# Altium footprint library FOOTPRINTS.PcbLib: 19 footprints (part 1 of 2)
Each footprint in its own frame and in the unit in brackets; x right, y up, seen from the top. Pads: shape width x height; smd on the part's side, far side on the other; paste and mask are expansions set on the pad; w line width, h text height; cw(c..) or ccw(c..) is an arc to the next point about the centre after c.
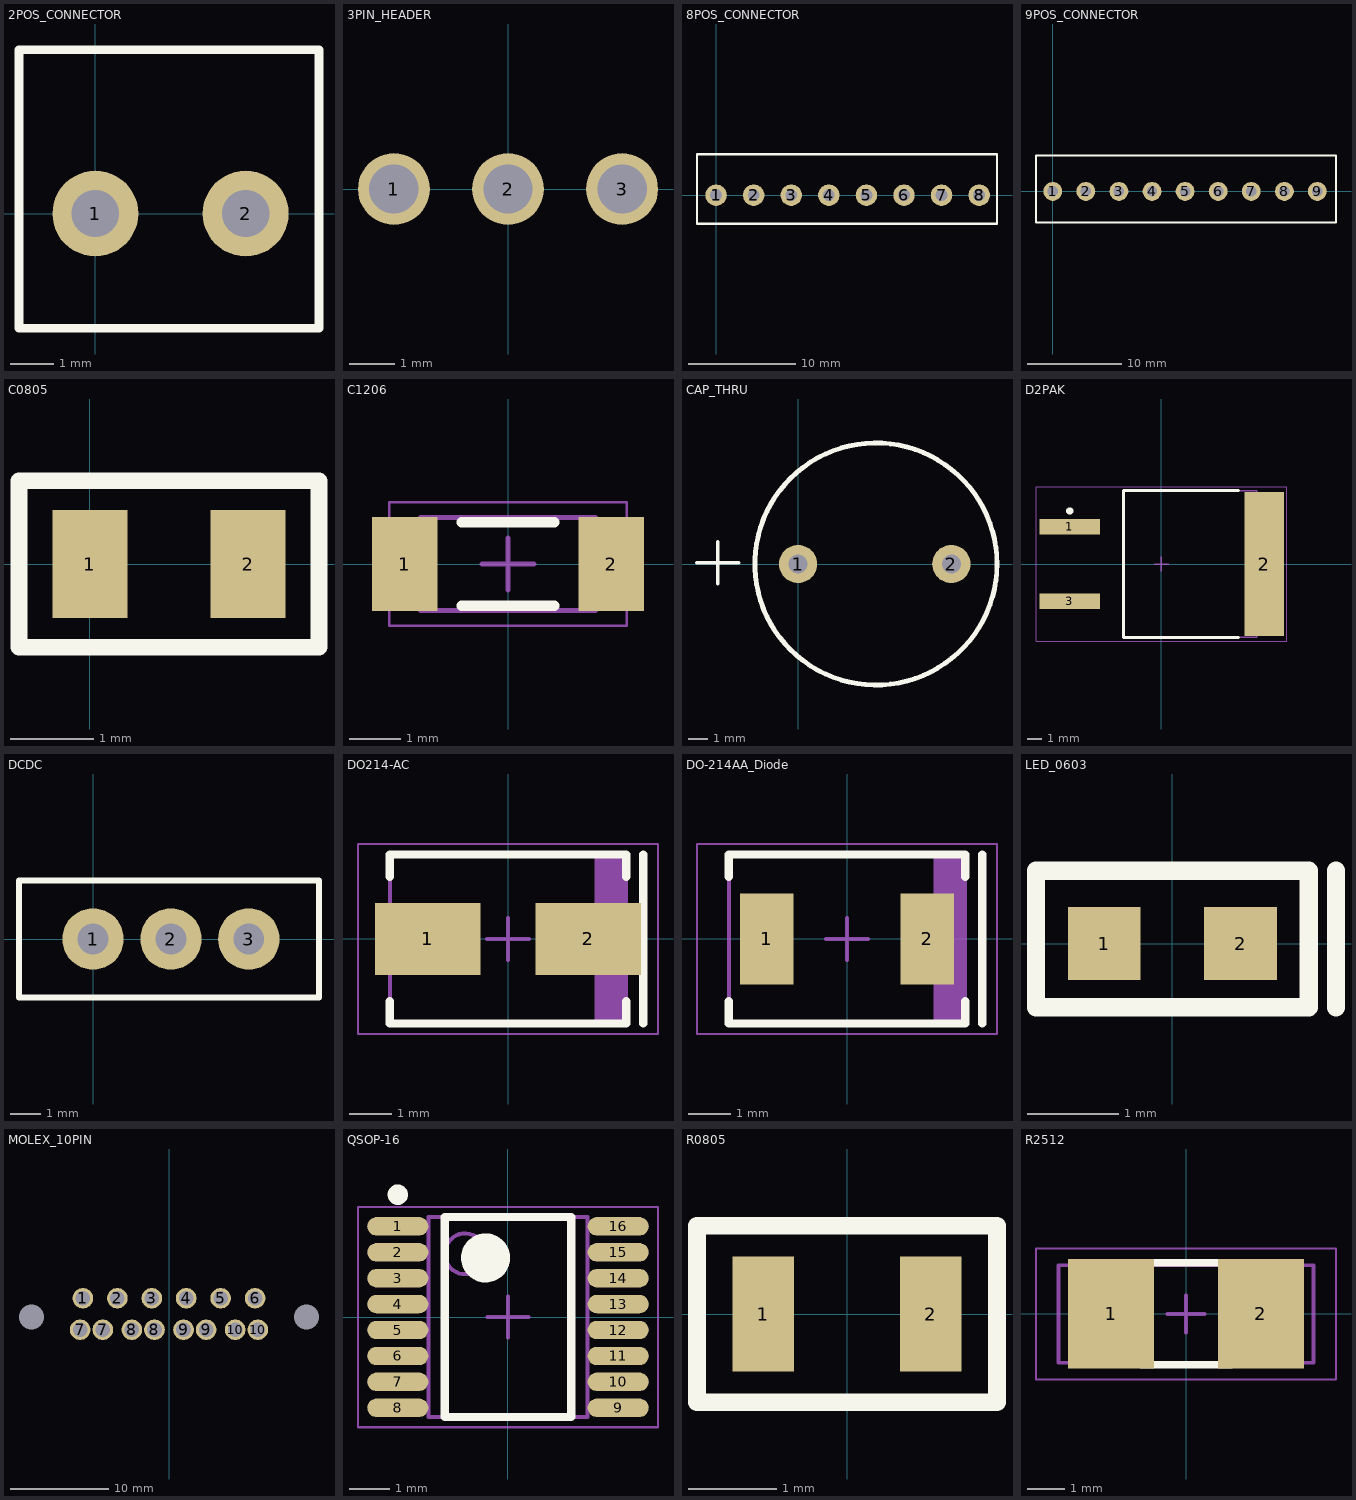
[diagram p0: the footprints below, top view; thin cyan lines are the x and y axes]

## 2POS_CONNECTOR [mm]
pads (2):
  round 2 hole 1.1: 1(0,0) 2(3.5,0)
Top Overlay:
  lines w0.2: -1.778,-2.667 -1.778,3.81 5.207,3.81 5.207,-2.667 -1.778,-2.667

## 3PIN_HEADER [mm]
pads (3):
  round 1.6 hole 1.1: 1(-2.54,0) 2(0,0) 3(2.54,0)
3D body "Pin Header 1x3 TH Pitch 2.54mm.stp": height 9.5, standoff -3.2, extent -3.81,-1.27 3.81,1.27

## 8POS_CONNECTOR [mm]
pads (9):
  round 2 hole 1.1: 1(0,0) 2(3.5,0) 3(7,0) 4(10.5,0) 5(14,0) 6(17.5,0) 7(21,0) 8(24.5,0) 8(24.511,0)
Top Overlay:
  lines w0.2: -1.778,-2.667 -1.778,3.81 26.162,3.81 26.162,-2.667 -1.778,-2.667

## 9POS_CONNECTOR [mm]
pads (9):
  round 2 hole 1.1: 1(0,0) 2(3.5,0) 3(7,0) 4(10.5,0) 5(14,0) 6(17.5,0) 7(21,0) 8(24.511,0) 9(28,0)
Top Overlay:
  lines w0.2: -1.778,-3.302 -1.778,3.81 29.972,3.81 29.972,-3.302 -1.778,-3.302

## C0805 [mm]
pads (2):
  rect 0.9x1.3 smd: 1(0,0) 2(1.9,0)
Top Overlay:
  lines w0.2: -0.85,-1 -0.85,1 2.75,1 2.75,-1 -0.85,-1

## C1206 [mm] "Chip Capacitor, 2-Leads, Body 3.20x1.60mm, IPC Medium Density"
height 1.8
pads (2):
  rect 1.27x1.82 smd: 1(-2,0) 2(2,0)
Top Overlay:
  lines w0.2: -0.9,-0.81 0.9,-0.81 ; -0.9,0.81 0.9,0.81
Mechanical 13:
  lines w0.1: -1.7,-0.9 1.7,-0.9 1.7,0.9 -1.7,0.9 -1.7,-0.9
Mechanical 15:
  lines w0.05: -2.3,-1.2 2.3,-1.2 2.3,1.2 -2.3,1.2 -2.3,-1.2
  lines w0.1: -0.5,0 0.5,0 ; 0,-0.5 0,0.5
3D body "CAPC3216X18N.step": height 1.8, standoff 0, extent -1.7,-0.9 1.7,0.9

## CAP_THRU [mm]
pads (2):
  round 2 hole 1: 1(0,0) 2(8,0)
Top Overlay:
  circle w0.254: c4.064,0 r6.316
  lines w0.2: -5.271,0.064 -3.111,0.064 ; -4.191,-1.016 -4.191,1.143

## D2PAK [mm]
pads (3):
  rect 4.15x1.05 smd: 1(-6.25,2.54) 3(-6.25,-2.54)
  rect 2.7x9.8 smd: 2(7,0)
Top Overlay:
  circle w0.25: c-6.25,3.615 r0.125
  lines w0.2: 5.25,-5 -2.6,-5 -2.6,5 5.25,5
Mechanical 13:
  lines w0.1: -2.6,-5 6.5,-5 6.5,5 -2.6,5 -2.6,-5
Mechanical 15:
  lines w0.05: -8.55,-5.25 8.55,-5.25 8.55,5.25 -8.55,5.25 -8.55,-5.25
  lines w0.1: -0.5,0 0.5,0 ; 0,-0.5 0,0.5
3D body "DPAK254P1524X483-3N.step": height 4.83, standoff 0, extent -7.105,-5 8.135,5

## DCDC [mm]
pads (3):
  round 2 hole 1: 1(0,0) 2(2.54,0) 3(5.08,0)
Top Overlay:
  lines w0.2: -2.413,-1.905 -2.413,1.905 7.366,1.905 7.366,-1.905 -2.413,-1.905

## DO214-AC [mm]
pads (2):
  rect 2.5x1.7 smd: 1(-1.9,0) 2(1.9,0)
Top Overlay:
  lines w0.2: -2.8,-1.475 -2.8,-2 2.8,-2 2.8,-1.475 ; -2.8,1.475 -2.8,2 2.8,2 2.8,1.475 ; 3.2,-2 3.2,2
Mechanical 13:
  rectangle: 2.043,-1.97 2.795,1.97
  lines w0.1: -2.795,-1.97 2.795,-1.97 2.795,1.97 -2.795,1.97 -2.795,-1.97
Mechanical 15:
  lines w0.05: -3.55,-2.25 3.55,-2.25 3.55,2.25 -3.55,2.25 -3.55,-2.25
  lines w0.1: -0.5,0 0.5,0 ; 0,-0.5 0,0.5
3D body "DIOM5336X26N.step": height 2.62, standoff 0, extent -3.015,-1.97 3.015,1.97

## DO-214AA_Diode [mm] "Molded Diode, 2-Leads, Body 5.33x3.62mm, IPC Medium Density"
height 2.62
pads (2):
  rect 1.27x2.15 smd: 1(-1.9,0) 2(1.9,0)
Top Overlay:
  lines w0.2: -2.8,-1.475 -2.8,-2 2.8,-2 2.8,-1.475 ; -2.8,1.475 -2.8,2 2.8,2 2.8,1.475 ; 3.2,-2 3.2,2
Mechanical 13:
  rectangle: 2.043,-1.97 2.795,1.97
  lines w0.1: -2.795,-1.97 -2.795,1.97 2.795,1.97 2.795,-1.97 -2.795,-1.97
Mechanical 15:
  lines w0.05: -3.55,-2.25 -3.55,2.25 3.55,2.25 3.55,-2.25 -3.55,-2.25
  lines w0.1: -0.5,0 0.5,0 ; 0,-0.5 0,0.5
3D body "DIOM5336X26N.step": height 2.62, standoff 0, extent -3.015,-1.97 3.015,1.97

## LED_0603 [mm]
pads (2):
  rect 0.8x0.8 smd: 1(-0.75,0) 2(0.75,0)
Top Overlay:
  lines w0.2: 1.8,-0.7 1.8,0.8 ; -1.5,-0.7 -1.5,0.8 1.5,0.8 1.5,-0.7 -1.5,-0.7

## MOLEX_10PIN [mm]
pads (16):
  round 2.1 hole 1.48: 1(-8.75,24.56) 2(-5.25,24.56) 3(-1.75,24.56) 4(1.75,24.56) 5(5.25,24.56) 6(8.75,24.56) 7(-9.025,21.36) 7(-6.725,21.36) 8(-3.775,21.36) 8(-1.475,21.36) 9(1.475,21.36) 9(3.775,21.36) 10(6.725,21.36) 10(9.025,21.36)
  round 0 hole 2.54: ""(-13.97,22.63) ""(13.97,22.63)
3D body "346960101.stp": height 21.66, standoff -3.9, extent -17.05,-9.26 17.05,25.902

## QSOP-16 [mm] "SOP, 16-Leads, Body 4.89x3.90mm, Pitch 0.64mm, IPC Medium Density"
height 1.75
pads (16):
  oval 1.5x0.45 smd: 1(-2.7,2.222) 2(-2.7,1.587) 3(-2.7,0.953) 4(-2.7,0.318) 5(-2.7,-0.318) 6(-2.7,-0.953) 7(-2.7,-1.587) 8(-2.7,-2.222) 9(2.7,-2.222) 10(2.7,-1.587) 11(2.7,-0.953) 12(2.7,-0.318) 13(2.7,0.318) 14(2.7,0.953) 15(2.7,1.587) 16(2.7,2.222)
Top Overlay:
  circle w0.6: c-0.55,1.45 r0.3
  circle w0.25: c-2.7,2.997 r0.125
  lines w0.2: -1.55,-2.45 1.55,-2.45 1.55,2.45 -1.55,2.45 -1.55,-2.45
Mechanical 13:
  circle w0.1: c-1.05,1.55 r0.5
  lines w0.1: -1.95,-2.45 1.95,-2.45 1.95,2.45 -1.95,2.45 -1.95,-2.45
Mechanical 15:
  lines w0.05: -3.675,-2.7 3.675,-2.7 3.675,2.7 -3.675,2.7 -3.675,-2.7
  lines w0.1: -0.5,0 0.5,0 ; 0,-0.5 0,0.5
3D body "SOP64P600X175-16N.step": height 1.75, standoff 0, extent -3,-2.45 3,2.45

## R0805 [mm]
pads (2):
  rect 0.7x1.3 smd: 1(-0.95,0) 2(0.95,0)
Top Overlay:
  lines w0.2: -1.7,-1 -1.7,1 1.7,1 1.7,-1 -1.7,-1

## R2512 [mm] "Chip Resistor, 2-Leads, Body 6.30x2.50mm, IPC Medium Density"
height 2.79
pads (2):
  rect 2.29x2.92 smd: 1(-2,0) 2(2,0)
Top Overlay:
  lines w0.2: -1.2,-1.36 1.2,-1.36 ; -1.2,1.36 1.2,1.36
Mechanical 13:
  lines w0.1: -3.4,-1.3 3.4,-1.3 3.4,1.3 -3.4,1.3 -3.4,-1.3
Mechanical 15:
  lines w0.05: -4,-1.75 4,-1.75 4,1.75 -4,1.75 -4,-1.75
  lines w0.1: -0.5,0 0.5,0 ; 0,-0.5 0,0.5
3D body "RESC6325X28N.step": height 2.79, standoff 0, extent -3.4,-1.3 3.4,1.3